# EAGLE library part BLUETOOTH_BOARD (library Bluetooth HC-05_new)
Bluetooth Board V1.05
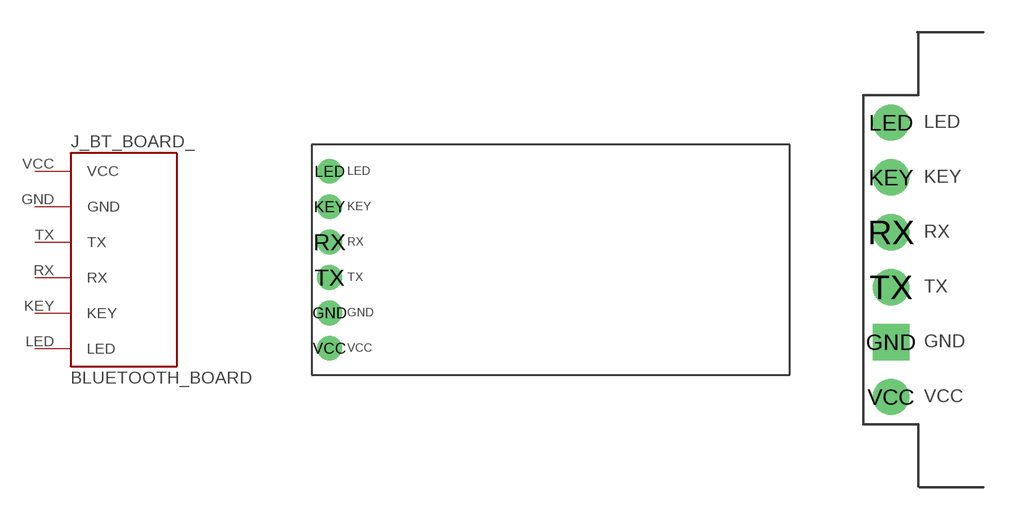
[diagram p1: symbol with the pads of BT_BOARD_FOOTPRINT; footprints BT_BOARD_FOOTPRINT, BT_BOARD_FOOTPRINT_STANDING]

Designator prefix J_BT_BOARD_

## BLUETOOTH_BOARD  [BT_BOARD_FOOTPRINT]
GND  GND
KEY  KEY
LED  LED
RX  RX
TX  TX
VCC  VCC

## BLUETOOTH_BOARDSTANDING  [BT_BOARD_FOOTPRINT_STANDING]
Pads as for BT_BOARD_FOOTPRINT

## Footprint BT_BOARD_FOOTPRINT (pad centres in mm)
Bluetooth Board V1.05 Footprint
drill 0.9 pad 1.778: GND -16.51,-2.54; KEY -16.51,5.08; LED -16.51,7.62; RX -16.51,2.54; TX -16.51,0; VCC -16.51,-5.08

## Footprint BT_BOARD_FOOTPRINT_STANDING (pad centres in mm)
drill 0.9 pad 1.676 square: GND -3.81,-1.27
drill 0.9 pad 1.676: KEY -3.81,6.35; LED -3.81,8.89; RX -3.81,3.81; TX -3.81,1.27; VCC -3.81,-3.81